# Altium schematic symbol library 2020-02-03_05-08-55.SchLib: 2 symbols
Pins are listed as number, name and electrical type; pins without a type are passive.

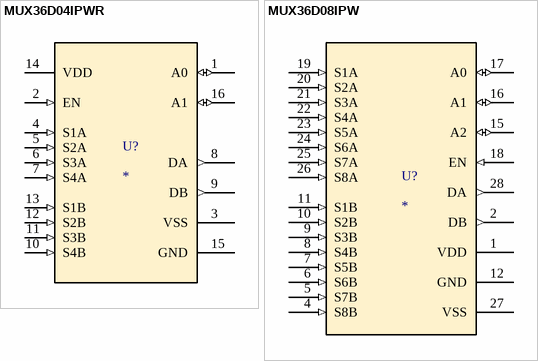
[diagram p0: symbols MUX36D04IPWR to MUX36D08IPW]

## MUX36D04IPWR
designator U?
No Description Available; PartNumber: MUX36D04IPWR; Manufacturer: Texas Instruments; RefDes: RefDes; Type: DEV; Value: Value; Copyright: Copyright (C) 2018 Accelerated Designs. All rights reserved
footprint PW0016A_N
pins: 1 A0 (io), 2 EN (in), 3 VSS (power), 4 S1A (in), 5 S2A (in), 6 S3A (in), 7 S4A (in), 8 DA (out), 9 DB (out), 10 S4B (in), 11 S3B (in), 12 S2B (in), 13 S1B (in), 14 VDD (power), 15 GND (power), 16 A1 (io)

## MUX36D08IPW
designator U?
No Description Available; PartNumber: MUX36S08IPWR; Manufacturer: Texas Instruments; RefDes: RefDes; Type: DEV; Value: Value; Copyright: Copyright (C) 2018 Accelerated Designs. All rights reserved
footprint PW0016A_N
pins: 1 VDD (power), 2 DB (out), 4 S8B (in), 5 S7B (in), 6 S6B (in), 7 S5B (in), 8 S4B (in), 9 S3B (in), 10 S2B (in), 11 S1B (in), 12 GND (power), 15 A2 (io), 16 A1 (io), 17 A0 (io), 18 EN (in), 19 S1A (in), 20 S2A (in), 21 S3A (in), 22 S4A (in), 23 S5A (in), 24 S6A (in), 25 S7A (in), 26 S8A (in), 27 VSS (power), 28 DA (out)